# Altium integrated library Passive elements.IntLib: 8 symbols
Pins are listed as number, name and electrical type; pins without a type are passive.

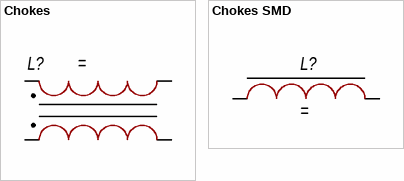
[diagram p0: symbols Chokes to Chokes SMD]

## Chokes
designator L?
Model: *; Manufcacture: *; HelpURL: *; Case: *; Value: *
footprint PLT5BPH1015R6SN
pins: 1, 2, 3, 4

## Chokes SMD
designator L?
Model: *; Manufcacture: *; HelpURL: *; Case: *; Value: *
footprint CDRH127
footprint MBH6045C-470MA
footprint SDR0604
pins: 1, 2


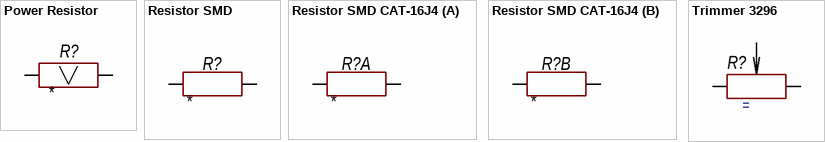
[diagram p1: symbols Power Resistor to Trimmer 3296]

## Power Resistor
designator R?
Model: *; Manufcacture: *; HelpURL: *; Case: *; Value: *
footprint Power_Res_SQM
footprint Power_Res_SQT
pins: 1, 2

## Resistor SMD
designator R?
Model: *; Manufcacture: *; HelpURL: *; Case: *; Value: *
footprint R0402
footprint R0603
footprint R0805
footprint R1206
footprint R1210
footprint R1218
footprint R2010
footprint R2512
footprint R0603_2
pins: 1, 2

## Resistor SMD CAT-16J4
designator R?
Model: *; Manufcacture: *; HelpURL: *; Case: *; Value: *
part A pins: 7, 8
part B pins: 3, 4

## Trimmer 3296
designator R?
footprint Trimmer 3296
pins: 1, 2, 3


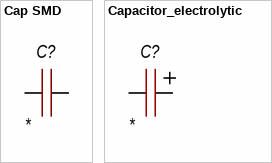
[diagram p2: symbols Сap SMD to Сapacitor_electrolytic]

## Сap SMD
designator C?
Case: *; HelpURL: *; Manufacature: *; Model: *; Value: *
footprint C0402
footprint C0603
footprint C0805
footprint C1206
footprint C1210
footprint C0603_2
pins: 1, 2

## Сapacitor_electrolytic
designator C?
Case: *; HelpURL: *; Manufacature: *; Model: *; Value: *
footprint D13x20x5
footprint D16x20x7.5
footprint SMD 6.3
footprint SMD_B 4x5.4
footprint SMD_C 5x5.4
footprint SMD_D 6.3x5.4
footprint SMD_E 8x6.5
footprint SMD_F 8x10.5
footprint Tantalum tepy A
footprint Tantalum tepy B
footprint Tantalum tepy C
footprint Tantalum tepy D
pins: 1, 2